# Altium footprint library Transformers.PcbLib: 1 footprints
Each footprint in its own frame and in the unit in brackets; x right, y up, seen from the top. Pads: shape width x height; smd on the part's side, far side on the other; paste and mask are expansions set on the pad; w line width, h text height; cw(c..) or ccw(c..) is an arc to the next point about the centre after c.
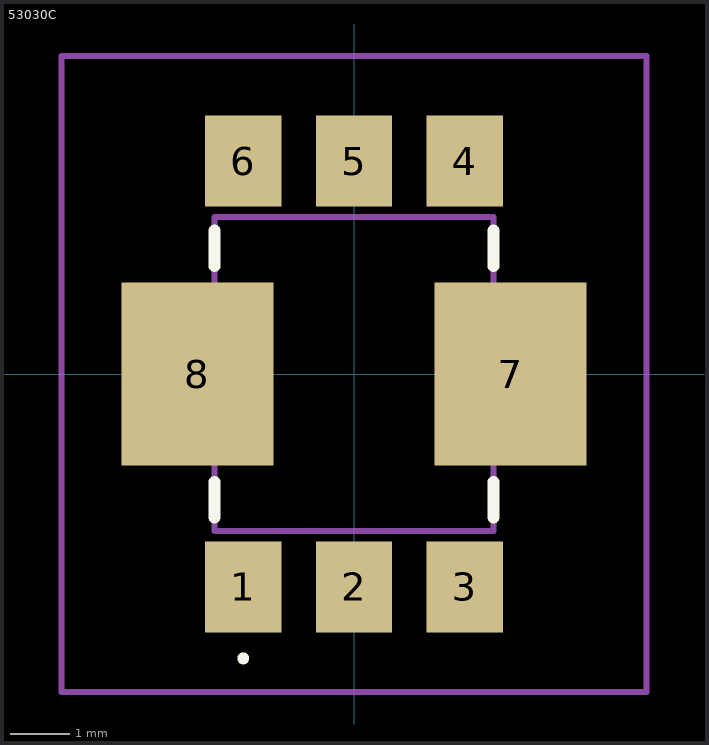
[diagram p0: the footprint, top view; thin cyan lines are the x and y axes]

## 53030C [mm]
pads (8):
  rect 1.27x1.52 smd: 1(-1.85,-3.555) 2(0,-3.555) 3(1.85,-3.555) 4(1.85,3.555) 5(0,3.555) 6(-1.85,3.555)
  rect 2.54x3.05 smd: 7(2.615,0) 8(-2.615,0)
Top Overlay:
  lines w0.1: -1.85,-4.8 -1.85,-4.8 ; -1.85,-4.8 ccw(c-1.85,-4.75) -1.85,-4.7 ; -1.85,-4.8 cw(c-1.85,-4.75) -1.85,-4.7 ; -1.85,-4.7 -1.85,-4.7
  lines w0.2: -2.33,-2.4 -2.33,-1.8 ; -2.33,1.8 -2.33,2.4 ; 2.33,-2.4 2.33,-1.8 ; 2.33,1.8 2.33,2.4
Mechanical 15:
  lines w0.1: -2.33,-2.625 2.33,-2.625 2.33,2.625 -2.33,2.625 -2.33,-2.625
Mechanical 20:
  lines w0.1: -4.885,-5.315 4.885,-5.315 4.885,5.315 -4.885,5.315 -4.885,-5.315